# Altium schematic symbol library Standard.SchLib: 2 symbols
Pins are listed as number, name and electrical type; pins without a type are passive.

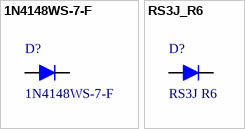
[diagram p0: symbols 1N4148WS-7-F to RS3J_R6]

## 1N4148WS-7-F
designator D?
DIODE GEN PURP 75V 150MA SOD323; Manufacturer: Diodes Incorporated; Type: Standard; Supplier 1: Farnell; Manufacturer Part Number: 1N4148WS-7-F; ComponentLink1URL: http://www.farnell.com/datasheets/2238477.pdf; ComponentLink1Description: Datasheet; Supplier Part Number 1: 1843678; ComponentLink2Description: Manufacturer; ComponentLink2URL: http://diodes.com/catalog/switching_diodes_5/1n4148wsf.html; ContinuousForwardCurrent: 150mA; Value: 75V; Supplier Footprint 2: SOD-323F; Supplier Part Number 2: C2128; Supplier 2: JLCPCB
footprint SOD-323 (SOD-323/SC-76; 2 Leads; Body 1.7 x 1.3 mm, (LxW))
pins: 1 "A", 2 "K"

## RS3J_R6
designator D?, comment RS3J R6
DIODE GEN PURP 600V 3A SMC; Manufacturer: TAIWAN SEMICONDUCTOR; Type: Standard; Manufacturer Part Number: RS3J R6; ContinuousForwardCurrent: 3A; Supplier 1: Farnell; Supplier Part Number 1: 2677388; ComponentLink1Description: Datasheet; ComponentLink1URL: http://www.farnell.com/datasheets/2182655.pdf; Value: 600V
footprint SMC, DO-214AB (WE-TVSP Power TVS Diode, DO-214AB, Unidirectional)
pins: 1 "A", 2 "K"